# EAGLE library part PEC11H-4015F-S0016 (library PEC11H-4015F-S0016)
Encoders ROTARY ENCODER W/BALL SPRING Source: Datasheet <https://datasheet.datasheetarchive.com/originals/distributors/Datasheets_SAMA/a6043e90758edfc13212f4a5e9bb13d0.pdf>
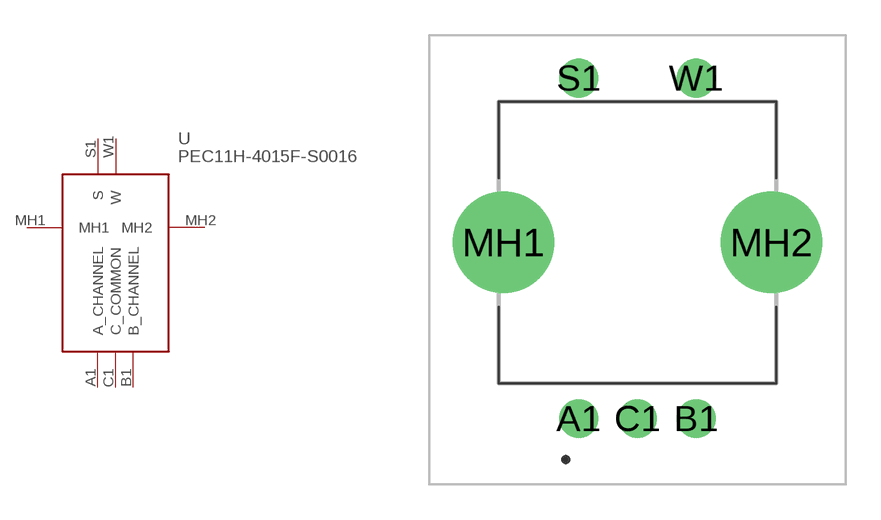
[diagram p0: symbol with the pads of PEC11H4120FS0020; footprint PEC11H4120FS0020]

Designator prefix U

## PEC11H-4015F-S0016 (Arrow_Part_Number: PEC11H-4015F-S0016; Arrow_Price-Stock: https://www.arrow.com/en/products/pec11h-4015f-s0016/bourns?region=nac; Description: Encoders ROTARY ENCODER W/BALL SPRING; Height: 26.5mm; Manufacturer_Name: Bourns; Manufacturer_Part_Number: PEC11H-4015F-S0016; Mouser_Part_Number: 652-PEC11H4015FS0016; Mouser_Price-Stock: https://www.mouser.co.uk/ProductDetail/Bourns/PEC11H-4015F-S0016?qs=7MVldsJ5UazZ6nkvCEo76Q%3D%3D)  [PEC11H4120FS0020]
A1  A_CHANNEL
B1  B_CHANNEL
C1  C_COMMON
MH1  MH1
MH2  MH2
S1  S
W1  W

## Footprint PEC11H4120FS0020 (pad centres in mm)
PEC11H-4120F-S0020-3
drill 1.1 pad 1.65: A1 0,0; B1 5,0; C1 2.5,0; S1 0,14.5; W1 5,14.5
drill 2.88 pad 4.32: MH1 -3.2,7.5; MH2 8.2,7.5